# Altium footprint library FIDUCIAL_1MM.PcbLib: 1 footprints
Each footprint in its own frame and in the unit in brackets; x right, y up, seen from the top. Pads: shape width x height; smd on the part's side, far side on the other; paste and mask are expansions set on the pad; w line width, h text height; cw(c..) or ccw(c..) is an arc to the next point about the centre after c.
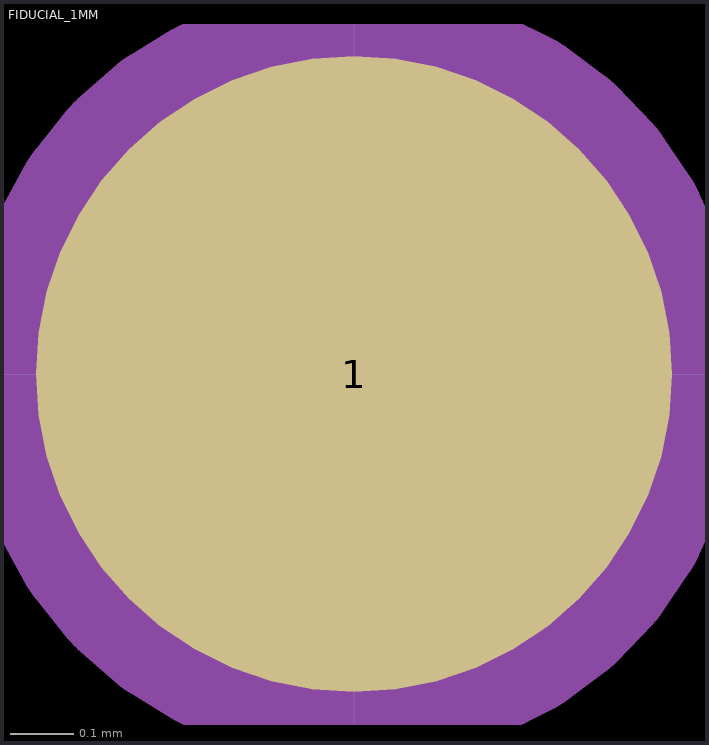
[diagram p0: the footprint, top view; thin cyan lines are the x and y axes]

## FIDUCIAL_1MM [mm] "1mm Fiducial"
pads (1):
  round 1 / inner round 1.524 / far side round 1.524 all layers, no hole paste-1 mask+0.5: 1(0,0)
Mechanical 13:
  circle w0.254: c0,0 r0.486
3D body: height 0.02, standoff 0.01, extent -0.498,-0.498 0.498,0.5